# EAGLE library part MOLEX_HDMI_208658-1051 (library New_Parts)
1.0 HDMI R/A HEADER ASSY (I/M TYPE) Source: Datasheet
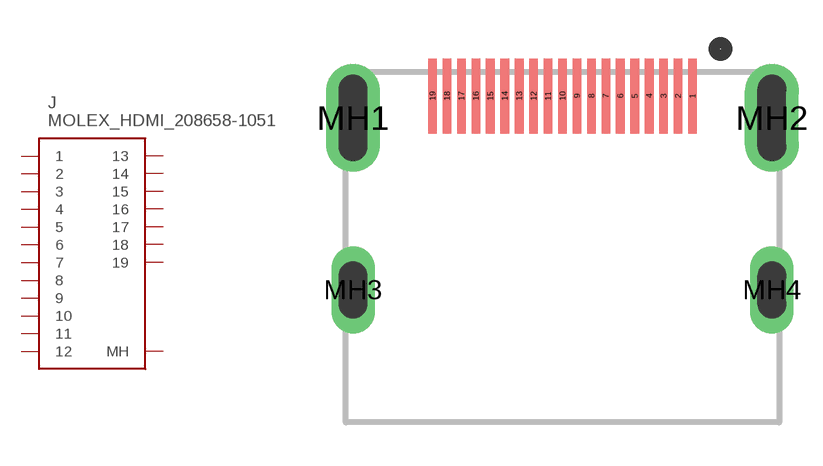
[diagram p1: symbol with the pads of MOLEX_HDMI_208658-1051; footprint MOLEX_HDMI_208658-1051]

Designator prefix J

## MOLEX_HDMI_208658-1051 (DESCRIPTION: 1.0 HDMI R/A HEADER ASSY (I/M TYPE); MANUFACTURER_NAME: Molex; MANUFACTURER_PART_NUMBER: 208658-1051; MOUSER_PART_NUMBER: 538-208658-1051; MOUSER_PRICE-STOCK: https://www.mouser.co.uk/ProductDetail/Molex/208658-1051?qs=BJlw7L4Cy7%252Bu27sIkZU3Xw%3D%3D)  [MOLEX_HDMI_208658-1051]
1  1
2  2
3  3
4  4
5  5
6  6
7  7
8  8
9  9
10  10
11  11
12  12
13  13
14  14
15  15
16  16
17  17
18  18
19  19
MH1  MH
MH2  MH
MH3  MH
MH4  MH

## Footprint MOLEX_HDMI_208658-1051 (pad centres in mm)
208658-1051-1
smd 0.3 x 2.6: 1 4.5,5.235; 2 4,5.235; 3 3.5,5.235; 4 3,5.235; 5 2.5,5.235; 6 2,5.235; 7 1.5,5.235; 8 1,5.235; 9 0.5,5.235; 10 0,5.235; 11 -0.5,5.235; 12 -1,5.235; 13 -1.5,5.235; 14 -2,5.235; 15 -2.5,5.235; 16 -3,5.235; 17 -3.5,5.235; 18 -4,5.235; 19 -4.5,5.235
drill 1 pad 1.875 long: MH1 -7.25,4.475; MH2 7.25,4.475
drill 1 long: MH3 -7.25,-1.485; MH4 7.25,-1.485